# Altium footprint library SOT223.PCBLIB: 1 footprints
Each footprint in its own frame and in the unit in brackets; x right, y up, seen from the top. Pads: shape width x height; smd on the part's side, far side on the other; paste and mask are expansions set on the pad; w line width, h text height; cw(c..) or ccw(c..) is an arc to the next point about the centre after c.
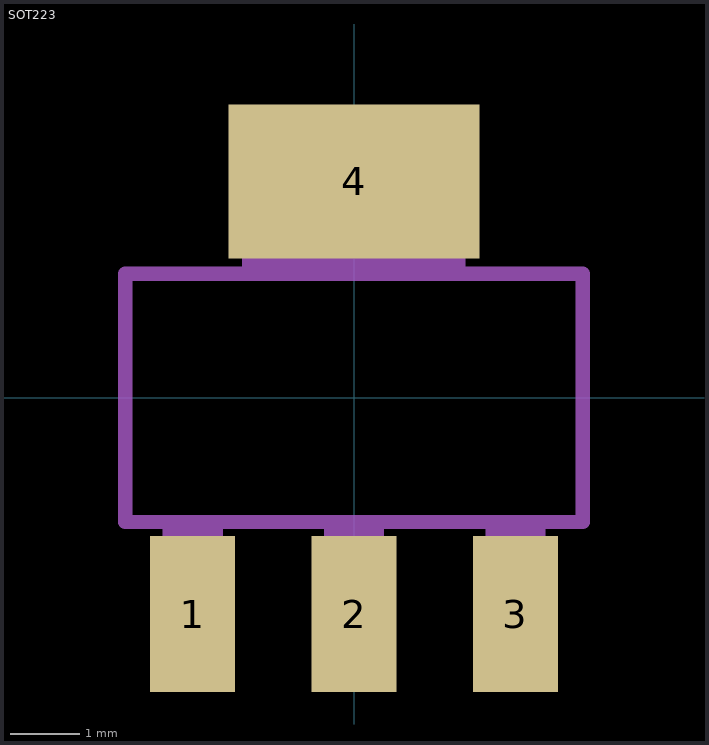
[diagram p0: the footprint, top view; thin cyan lines are the x and y axes]

## SOT223 [mm]
pads (4):
  rect 1.219x2.235 smd: 1(-2.311,-3.099) 2(0,-3.099) 3(2.311,-3.099)
  rect 3.6x2.2 smd: 4(0,3.099)
Mechanical 2:
  lines w0.203: -3.277,-1.778 3.277,-1.778 3.277,1.778 -3.277,1.778 -3.277,-1.778
Mechanical 18:
  rectangle: -1.601,1.805 1.6,3.658
  rectangle: -0.433,-3.665 0.432,-1.803
  rectangle: -2.744,-3.659 -1.88,-1.803
  rectangle: 1.88,-3.659 2.743,-1.803
  rectangle: -1.6,1.803 1.6,3.658
  rectangle: -0.432,-3.66 0.432,-1.803
  rectangle: -2.745,-3.66 -1.88,-1.803
  rectangle: 1.883,-3.663 2.743,-1.803